# Altium footprint library PcbLib1.PcbLib: 21 footprints (part 2 of 2)
Each footprint in its own frame and in the unit in brackets; x right, y up, seen from the top. Pads: shape width x height; smd on the part's side, far side on the other; paste and mask are expansions set on the pad; w line width, h text height; cw(c..) or ccw(c..) is an arc to the next point about the centre after c.
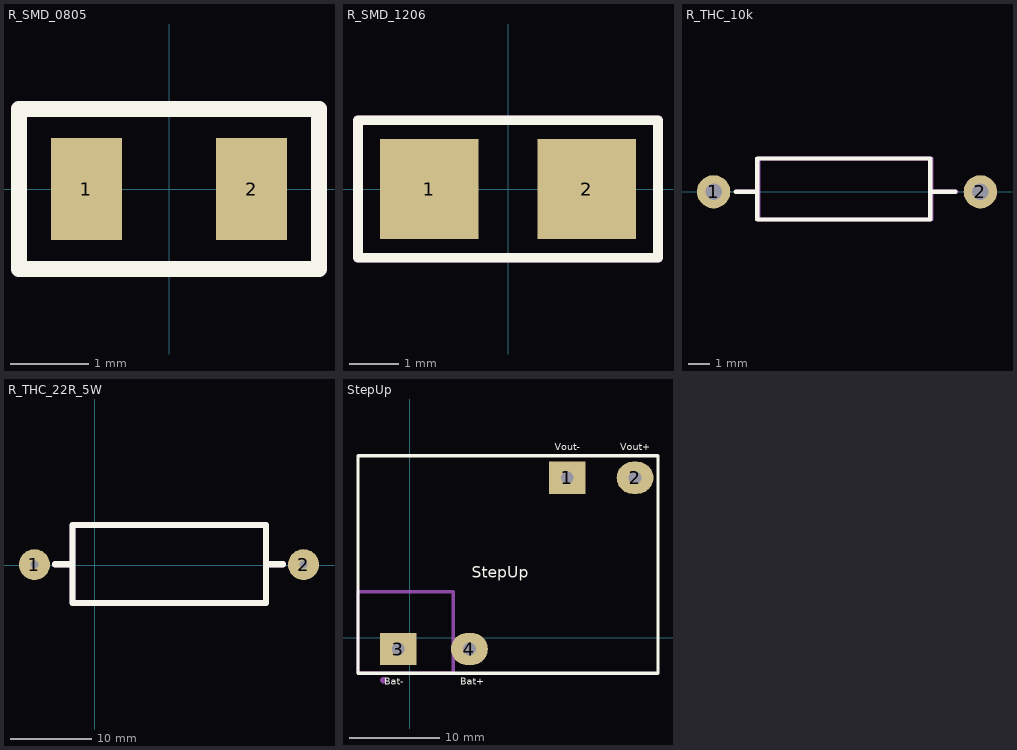
[diagram p1: the footprints below, top view; thin cyan lines are the x and y axes]

## R_SMD_0805 [mm]
pads (2):
  rect 0.9x1.3 smd: 1(-1.05,0) 2(1.05,0)
Top Overlay:
  lines w0.2: -1.905,-1.016 1.905,-1.016 1.905,1.016 -1.905,1.016 -1.905,-1.016
Mechanical 29:
  lines w0.2: -1.905,-1.016 1.905,-1.016 1.905,1.016 -1.905,1.016 -1.905,-1.016
  text "'.Designator'" at -2.54,-0.635 h0.7
3D body "RMCF0805FT10K0.step": height 0.65, standoff 0, extent -1,-0.625 1,0.625

## R_SMD_1206 [mm]
pads (2):
  rect 2x2.032 smd: 1(-1.6,0) 2(1.6,0)
Top Overlay:
  lines w0.2: -3.048,-1.397 -3.048,1.397 3.048,1.397 3.048,-1.397 -3.048,-1.397
Mechanical 29:
  lines w0.2: -3.048,-1.397 -3.048,1.397 3.048,1.397 3.048,-1.397 -3.048,-1.397
  text "'.Designator'" at -2.794,-0.635 h0.7
3D body "STA_RMCF1206_STP.step": height 0.71, standoff 0, extent -1.681,-0.855 1.773,0.897

## R_THC_10k [mil]
pads (2):
  round 60 hole 30: 1(70,0) 2(550,0)
Top Overlay:
  lines w7.87: 110,0 148.62,0 ; 460,0 505,0 ; 148.62,0 148.62,60 460,60 460,-50 148.62,-50 148.62,0
Mechanical 29:
  lines w7.87: 111.38,0 150,0 ; 461.38,0 506.38,0 ; 150,0 150,-50 461.38,-50 461.38,60 150,60 150,0
  text "'.Designator'" at 140,-30 h27.56
Mechanical 29 (Mech29):
  lines w7.87: 111.38,0 150,0 ; 461.38,0 506.38,0 ; 150,0 150,60 461.38,60 461.38,-50 150,-50 150,0
  text "'.Designator'" at 156.54,-23.13 h31.5
3D body "R10k.step": height 102.59, standoff -110, extent 57.5,-47.8 562.5,55

## R_THC_22R_5W [mil]
pads (2):
  round 150 hole 40: 1(-293,4) 2(1013,4)
Top Overlay:
  lines w30: -193,6 -108.62,6 ; 836.62,6 913,6 ; -108,-182 -108,0.43 -108,196 831,196 831,-182 -108,-182
Mechanical 29:
  lines w30: -193,6 -108.62,6 ; 836.62,6 913,6 ; -108,-182 -108,0.43 -108,196 831,196 831,-182 -108,-182
  text "'.Designator'" at -65,-105 h100
3D body "RTHC_22R.step": height 338.99, standoff -100, extent -318,-162 1032,177

## StepUp [mil]
pads (4):
  rect 160x140 hole 55.12: 1(685,695) 3(-50,-50)
  oval 160x140 hole 55.12: 2(980,695) 4(260,-50)
Top Overlay:
  lines w15: 1075,790 -225,790 -225,-155 1080,-155 1080,790
  text "StepUp" at 270,260 h50
  text "Bat+" at 220,-205 h30
  text "Bat-" at -110,-205 h30
  text "Vout+" at 915,815 h30
  text "Vout-" at 630,815 h30
Mechanical 29:
  text "'.Designator'" at -100,530 h27.56
Mechanical 29 (Mech29):
  circle w20: c-115,-185 r3.94
  lines w15: -225,-155 -225,200 188.7,200 188.7,-155 -225,-155
  text "'.Designator'" at -165,-125.01 h60